# Altium footprint library L-59EGW-CA.PcbLib: 1 footprints
Each footprint in its own frame and in the unit in brackets; x right, y up, seen from the top. Pads: shape width x height; smd on the part's side, far side on the other; paste and mask are expansions set on the pad; w line width, h text height; cw(c..) or ccw(c..) is an arc to the next point about the centre after c.
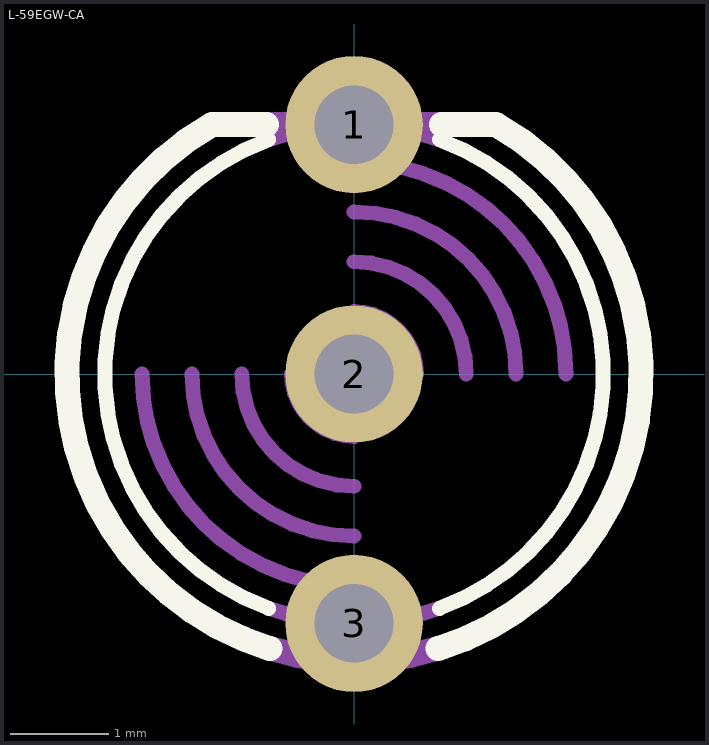
[diagram p0: the footprint, top view; thin cyan lines are the x and y axes]

## L-59EGW-CA [mm]
pads (3):
  round 1.4 hole 0.8 mask+0.102: 1(0,2.54) 2(0,0) 3(0,-2.54)
Top Overlay:
  lines w0.152: -0.868,-2.386 cw(c0,0) -0.868,2.386 ; 0.868,-2.386 ccw(c0,0) 0.868,2.386
  lines w0.254: -1.462,2.532 ccw(c0,0) -0.855,-2.796 ; -1.448,2.54 -0.889,2.54 ; 0.855,-2.797 ccw(c0,0) 1.462,2.533 ; 0.889,2.54 1.448,2.54
Assembly Top:
  lines w0.152: -2.159,0 ccw(c0,0) 0,-2.159 ; -1.651,0 ccw(c0,0) 0,-1.651 ; -1.143,0 ccw(c0,0) 0,-1.143 ; -0.868,-2.386 ccw(c0,0) 0.868,-2.386 ; -0.868,2.386 cw(c0,0) 0.868,2.386 ; -0.635,0 ccw(c0,0) 0,-0.635 ; 0,0.635 cw(c0,0) 0.635,0 ; 0,1.143 cw(c0,0) 1.143,0 ; 0,1.651 cw(c0,0) 1.651,0 ; 0,2.159 cw(c0,0) 2.159,0
  lines w0.254: -0.94,2.54 0.889,2.54 ; -0.855,-2.797 ccw(c0,0) 0.855,-2.797
3D body "step_temp.STEP": height 11.35, standoff -21.75, extent -2.89,-2.947 2.95,2.947